# Altium footprint library iBox_Telma.PcbLib: 41 footprints (part 3 of 3)
Each footprint in its own frame and in the unit in brackets; x right, y up, seen from the top. Pads: shape width x height; smd on the part's side, far side on the other; paste and mask are expansions set on the pad; w line width, h text height; cw(c..) or ccw(c..) is an arc to the next point about the centre after c.
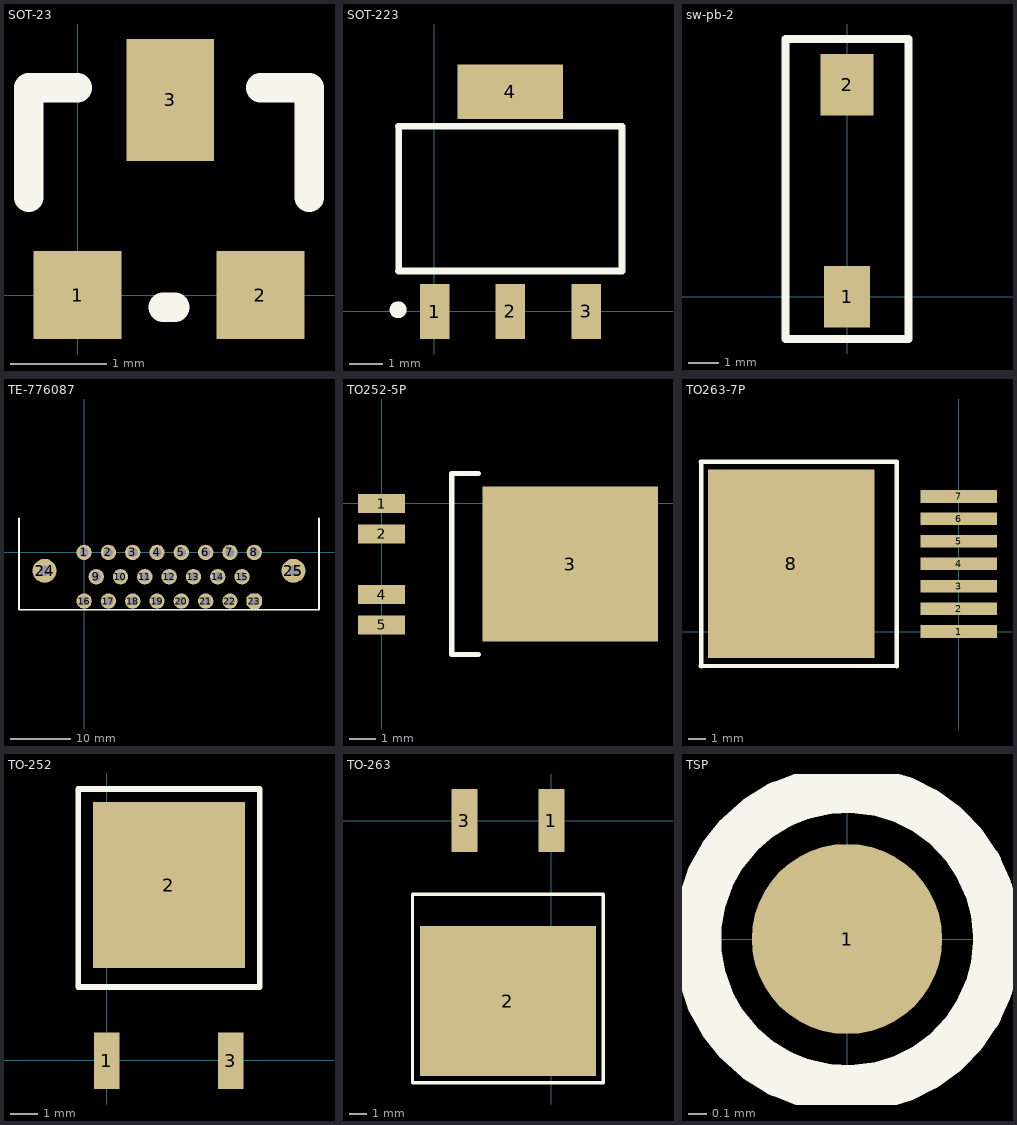
[diagram p2: the footprints below, top view; thin cyan lines are the x and y axes]

## SOT-23 [mil]
pads (3):
  rect 36x36 smd: 1(0,0) 2(75,0)
  rect 36x50 smd: 3(38,80)
Top Overlay:
  lines w12: -20,40 -20,85 0,85 ; 35,-5 40,-5 ; 75,85 95,85 95,40
3D body "CircuitWorks-SOT-23.STEP": height 45.28, standoff 1.97, extent -19.05,-4.21 99.06,94.21

## SOT-223 [mil]
pads (4):
  rect 35x65 smd: 1(0.12,-0.1) 2(90,0) 3(180,0)
  rect 125x65 smd: 4(90,260.5)
Top Overlay:
  circle w10: c-43.12,2.08 r5
  lines w8: -42.5,47.92 222.5,47.92 ; -42.5,219.58 222.5,219.58 ; -42.45,47.92 -42.45,219.38 ; 222.45,47.92 222.45,219.38
3D body "ALSRobot-SOT-223.STEP": height 64.57, standoff -0.39, extent -37.94,-12.8 217.96,262.8

## sw-pb-2 [mil]
pads (2):
  rect 60x80 smd: 1(0,0)
  rect 69x80 smd: 2(0,275.59)
Top Overlay:
  lines w10: -80,-55 80,-55 80,335 -80,335 -80,-55
3D body "TVBU19.STEP": height 98.43, standoff 0, extent -77.84,24.93 67.83,265.09

## TE-776087 [mil]
pads (25):
  round 100 hole 60: 1(-0.3,-0.13) 2(157.48,0) 3(314.96,0) 4(472.44,0) 5(629.92,0) 6(787.4,0) 7(944.88,0) 8(1102.36,0) 9(78.74,-157.48) 10(235.81,-157.5) 11(393.29,-157.5) 12(550.77,-157.5) 13(708.25,-157.5) 14(865.74,-157.5) 15(1023.22,-157.5) 16(0,-314.96) 17(157.48,-315) 18(314.96,-315) 19(472.44,-315) 20(629.92,-315) 21(787.4,-315) 22(944.88,-315)
  oct 100x100 hole 60: 23(1102.36,-315)
  round 155 hole 70: 24(-255.75,-119.12) 25(1355.75,-119.12)
Top Overlay:
  lines w10: -421.67,220 -421.67,-370 1521.67,-370 1521.67,220
3D body "c-776087-4-l-3d.stp": height 1104.33, standoff -159.45, extent -646.85,-395 1746.85,1093.19

## TO252-5P [mil]
pads (5):
  rect 70x28 smd: 1(0.06,-0.33) 2(0,-45.42) 4(0,-135.42) 5(0,-180.42)
  rect 260x230 smd: 3(280,-90)
Top Overlay:
  lines w8: 104.17,-224.17 104.17,44.17 ; 104.38,-224.17 143.54,-224.17 ; 104.38,44.17 143.54,44.17
3D body "User Library-TO252-4L.STEP": height 90.57, standoff -0.24, extent 1.66,-213.07 387.49,42.83

## TO263-7P [mil]
pads (8):
  rect 170x28 smd: 1(-0.42,0.25) 2(0,50.67) 3(0,100.67) 4(0,150.67) 5(0,200.67) 6(0,250.67) 7(0,300.67)
  rect 370x420 smd: 8(-372.4,150.83)
Top Overlay:
  lines w10: -573.54,-76.46 -137.5,-76.46 ; -573.54,378.12 -137.5,378.12 ; -573.33,-76.67 -573.33,378.33 ; -137.5,-76.67 -137.5,378.33
3D body "User Library-TO263-7S.STEP": height 184.36, standoff -4.62, extent -546.93,-46.85 70,346.85

## TO-252 [mil]
pads (3):
  rect 37x82 smd: 1(-0.4,-0.3) 3(179.58,-0.42)
  rect 220x240 smd: 2(90,253.8)
Top Overlay:
  lines w8: -41.67,106.25 221.67,106.25 ; -41.67,392.92 221.67,392.92 ; -41.51,106.25 -41.51,392.92 ; 221.51,106.25 221.51,392.92
3D body "CircuitWorks-TO-252.STEP": height 90.55, standoff 0, extent -39.52,-20.47 219.53,361.42

## TO-263 [mil]
pads (3):
  rect 60x145 smd: 1(-0.12,0.15) 3(-200,0)
  rect 405x345 smd: 2(-100,-415.3)
Top Overlay:
  lines w8: -319.58,-603.75 -319.58,-170 ; -319.17,-603.33 120,-603.33 ; -319.17,-170 120,-170 ; 119.58,-603.75 119.58,-170
3D body "User Library-TO263-3S.STEP": height 192.23, standoff 3.26, extent -298.7,-573.47 95,43.46

## TSP [mil] "Testpoint"
pads (1):
  round 40 smd: 1(0,0)
Top Overlay:
  circle w10: c0,0 r31.5